# Altium footprint library bone_cape.PcbLib: 1 footprints
Each footprint in its own frame and in the unit in brackets; x right, y up, seen from the top. Pads: shape width x height; smd on the part's side, far side on the other; paste and mask are expansions set on the pad; w line width, h text height; cw(c..) or ccw(c..) is an arc to the next point about the centre after c.
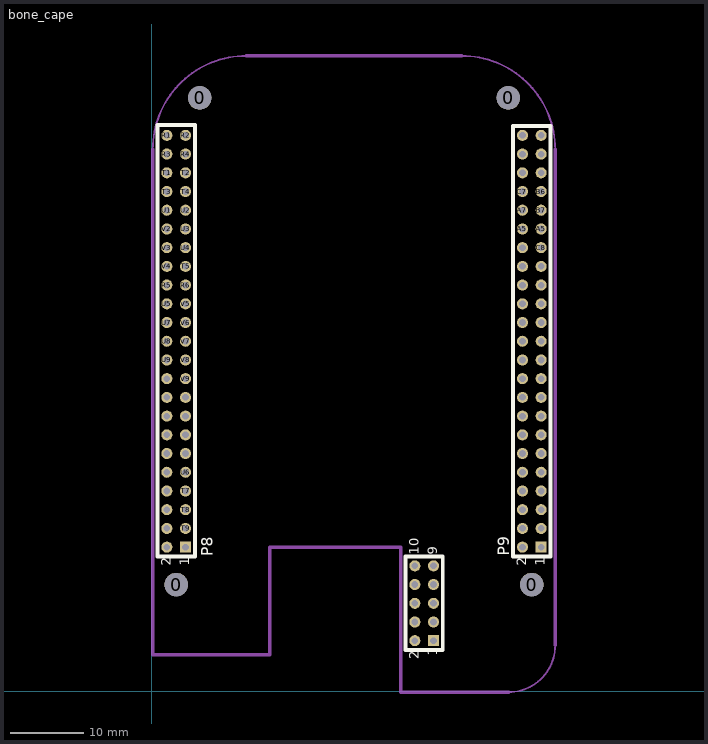
[diagram p0: the footprint, top view; thin cyan lines are the x and y axes]

## bone_cape [mm]
pads (106):
  round 3.175 hole 3.175: 0(3.302,14.478) 0(6.477,80.518) 0(48.387,80.518) 0(51.562,14.478)
  round 1.5 hole 0.9: A5(50.292,62.738) A5(52.832,62.738) A7(50.292,65.278) A10(50.292,29.718) A13(52.832,57.658) A14(52.832,50.038) A16(52.832,39.878) A17(50.292,44.958) B6(52.832,67.818) B7(52.832,65.278) B13(52.832,55.118) B16(50.292,39.878) B17(52.832,44.958) BAT(35.687,6.858) BAT_ISET2(38.227,11.938) BAT_SENSE(38.227,9.398) BAT_TEMP(35.687,9.398) BL_IN(35.687,14.478) BL_ISET1(35.687,11.938) BL_OUT(38.227,14.478) BL_SINK1(38.227,17.018) BL_SINK2(35.687,17.018) C7(50.292,67.818) C8(52.832,60.198) C12(50.292,52.578) C13(52.832,52.578) C18(50.292,70.358) D12(50.292,55.118) D14(52.832,70.358) D15(50.292,47.498) D16(50.292,50.038) D17(52.832,42.418) D18(50.292,42.418) GND(2.032,19.558) GND(50.292,19.558) GND(50.292,72.898) GND(50.292,75.438) GND(52.832,72.898) GND(52.832,75.438) GNDA_ADC(50.292,60.198) PWR_BUT(52.832,29.718) R1(2.032,75.438) R2(4.572,75.438) R3(2.032,72.898) R4(4.572,72.898) R5(2.032,55.118) R6(4.572,55.118) R13(52.832,37.338) SYS_5V(2.032,27.178) SYS_5V(50.292,27.178) SYS_5V(52.832,27.178) SYS_RESET(2.032,29.718) T1(2.032,70.358) T2(4.572,70.358) T3(2.032,67.818) T4(4.572,67.818) T5(4.572,57.658) T7(4.572,27.178) T8(4.572,24.638) T9(4.572,22.098) T11(4.572,34.798) T12(4.572,32.258) T14(2.032,37.338) T14(50.292,37.338) T17(52.832,32.258) U1(2.032,65.278) U2(4.572,65.278) U3(4.572,62.738) U4(4.572,60.198) U5(2.032,52.578) U6(4.572,29.718) U7(2.032,50.038) U8(2.032,47.498) U9(2.032,44.958) U10(2.032,42.418) U12(2.032,39.878) U14(2.032,34.798) U14(50.292,34.798) U17(52.832,34.798) U18(2.032,32.258) U18(50.292,32.258) V2(2.032,62.738) V3(2.032,60.198) V4(2.032,57.658) V5(4.572,52.578) V6(4.572,50.038) V7(4.572,47.498) V8(4.572,44.958) V9(4.572,42.418) V12(4.572,39.878) V13(4.572,37.338) V14(52.832,47.498) VDD_3V3(2.032,22.098) VDD_3V3(50.292,22.098) VDD_3V3(52.832,22.098) VDD_5V(2.032,24.638) VDD_5V(50.292,24.638) VDD_5V(52.832,24.638) VDD_ADC(50.292,57.658)
  rect 1.5x1.5 hole 0.9: BAT(38.227,6.858) GND(4.572,19.558) GND(52.832,19.558)
Top Overlay:
  lines w0.5: 0.762,18.288 0.762,76.835 5.842,76.835 5.842,18.288 0.762,18.288 ; 34.417,5.588 34.417,18.288 39.497,18.288 39.497,5.588 34.417,5.588 ; 49.022,18.288 49.022,76.708 54.102,76.708 54.102,18.288 49.022,18.288
  text "2" at 2.54,17.018 h1.27
  text "1" at 5.08,17.018 h1.27
  text "2" at 50.8,17.018 h1.27
  text "1" at 53.34,17.018 h1.27
  text "P8" at 8.255,18.288 h1.52
  text "P9" at 48.514,18.415 h1.52
  text "10" at 36.195,18.542 h1.27
  text "9" at 38.735,18.542 h1.27
  text "1" at 38.735,4.826 h1.27
  text "2" at 36.195,4.318 h1.27
Board Outline:
  lines w0.254: 0.127,73.533 cw(c12.827,73.533) 12.827,86.233 ; 42.037,86.233 cw(c42.037,73.533) 54.737,73.533 ; 48.387,-0.127 ccw(c48.387,6.223) 54.737,6.223
  lines w0.5: 0.127,73.533 0.127,4.953 16.002,4.953 16.002,19.558 33.782,19.558 33.782,-0.127 48.387,-0.127 ; 12.827,86.233 42.037,86.233 ; 54.737,6.223 54.737,73.533